# EAGLE library part FYM-12881AXX (library CEDTv78)
8 x 8 LED Matrix Bi-Color
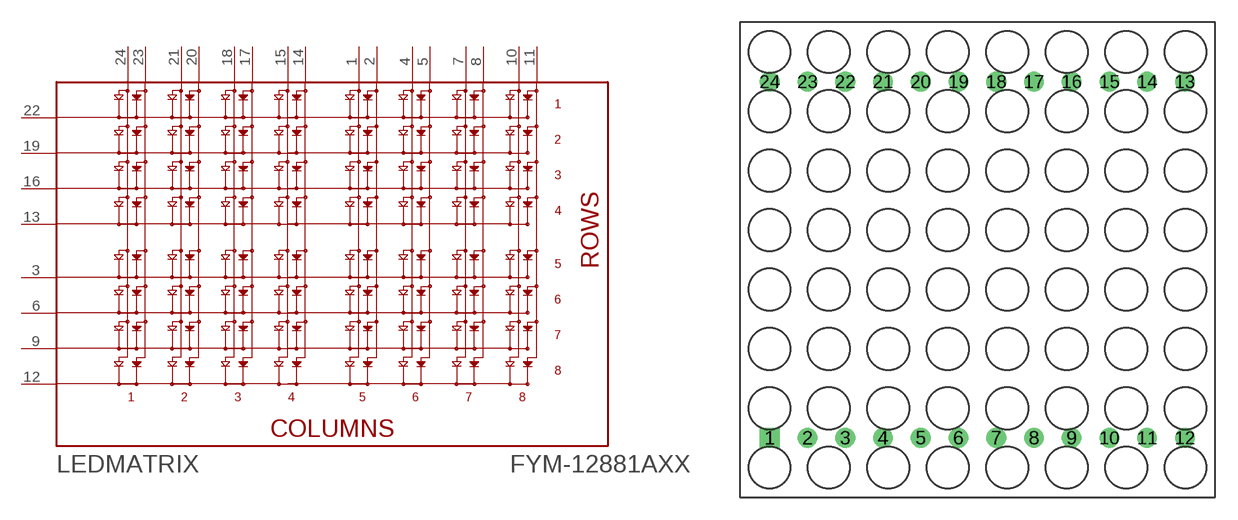
[diagram p18: symbol with the pads of FYM-12881XXX; footprint FYM-12881XXX]

Designator prefix LEDMATRIX

## FYM-12881AXX  [FYM-12881XXX]
1  1
2  2
3  3
4  4
5  5
6  6
7  7
8  8
9  9
10  10
11  11
12  12
13  13
14  14
15  15
16  16
17  17
18  18
19  19
20  20
21  21
22  22
23  23
24  24

## Footprint FYM-12881XXX (pad centres in mm)
drill 0.813 square: 1 2.019,4
drill 0.813: 2 4.559,4; 3 7.099,4; 4 9.639,4; 5 12.179,4; 6 14.719,4; 7 17.259,4; 8 19.799,4; 9 22.339,4; 10 24.879,4; 11 27.419,4; 12 29.959,4; 13 29.959,28; 14 27.419,28; 15 24.879,28; 16 22.339,28; 17 19.799,28; 18 17.259,28; 19 14.719,28; 20 12.179,28; 21 9.639,28; 22 7.099,28; 23 4.559,28; 24 2.019,28